# EAGLE library part LM393 (library geoffculp)
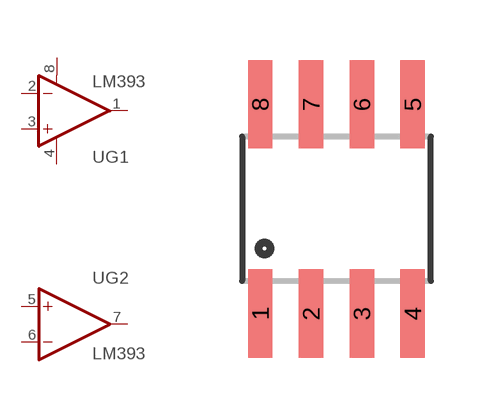
[diagram p239: symbol with the pads of SO08; footprint SO08]

Designator prefix -; gates G1=OP-AMP+- G2=OP-AMP

## LM393  [SO08]
1  G1:OUT  out
2  G1:-IN  in
3  G1:+IN  in
4  G1:V-  pwr
5  G2:+IN  in
6  G2:-IN  in
7  G2:OUT  out
8  G1:V+  pwr

## Footprint SO08 (pad centres in mm)
Small Outline Package Fits JEDEC packages (narrow SOIC-8)
smd 0.61 x 2.21: 1 -1.905,-2.616; 2 -0.635,-2.616; 3 0.635,-2.616; 4 1.905,-2.616; 5 1.905,2.616; 6 0.635,2.616; 7 -0.635,2.616; 8 -1.905,2.616